# EAGLE library part ISPRJ45 (library lattice)
RJ-45 connector for in-circuit programming cable
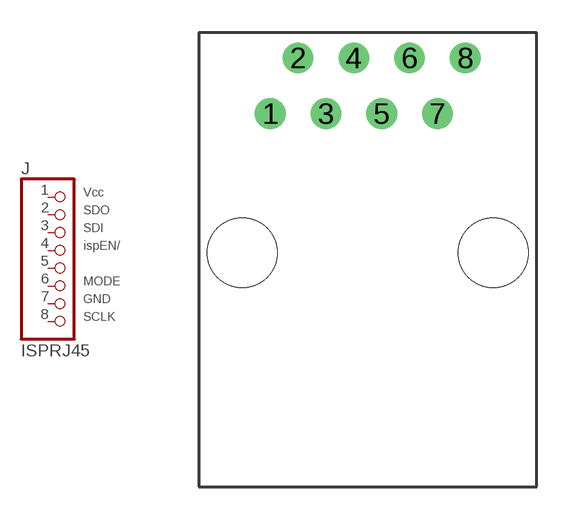
[diagram p3: symbol with the pads of RJ45-90; footprint RJ45-90]

Designator prefix J

## ISPRJ45  [RJ45-90]
1  VCC  pwr
2  SDO  in
3  SDI  out
4  ISPEN/  out
5  N/C  nc
6  MODE  out
7  GND  pwr
8  SCLK  out

## Footprint RJ45-90 (pad centres in mm)
RJ-45 connector for in-circuit programming cable
drill 0.889 pad 1.397 round: 1 0,0; 2 1.27,2.54; 3 2.54,0; 4 3.81,2.54; 5 5.08,0; 6 6.35,2.54; 7 7.62,0; 8 8.89,2.54
hole 3.175 at 10.16,-6.35
hole 3.175 at -1.27,-6.35